# Altium schematic symbol library 201267-0005.SchLib: 1 symbol
Pins are listed as number, name and electrical type; pins without a type are passive.

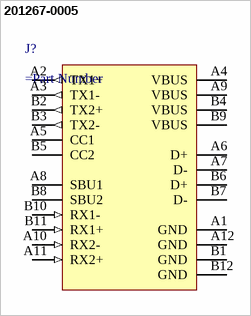
[diagram p0: symbol 201267-0005]

## 201267-0005
designator J?
=Description
pins: A1 GND (power), A2 TX1+ (out), A3 TX1- (out), A4 VBUS (power), A5 CC1, A6 D+, A7 D-, A8 SBU1, A9 VBUS (power), A10 RX2- (in), A11 RX2+ (in), A12 GND (power), B1 GND (power), B2 TX2+ (out), B3 TX2- (out), B4 VBUS (power), B5 CC2, B6 D+, B7 D-, B8 SBU2, B9 VBUS (power), B10 RX1- (in), B11 RX1+ (in), B12 GND (power)